# EAGLE library part HEADER16 (library headers)
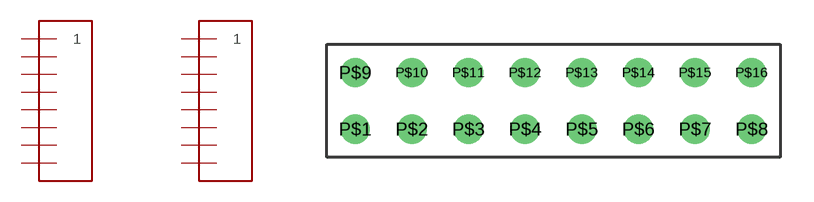
[diagram p0: symbol with the pads of 2X8; footprint 2X8]

Designator prefix -; gates G$1=1X8 G$2=1X8

## HEADER16  [2X8]
P$1  G$1:1
P$2  G$1:P$2
P$3  G$1:P$3
P$4  G$1:P$4
P$5  G$1:P$5
P$6  G$1:P$6
P$7  G$1:P$7
P$8  G$1:P$8
P$9  G$2:1
P$10  G$2:P$2
P$11  G$2:P$3
P$12  G$2:P$4
P$13  G$2:P$5
P$14  G$2:P$6
P$15  G$2:P$7
P$16  G$2:P$8

## Footprint 2X8 (pad centres in mm)
drill 0.813: P$1 0,0; P$2 2.54,0; P$3 5.08,0; P$4 7.62,0; P$5 10.16,0; P$6 12.7,0; P$7 15.24,0; P$8 17.78,0; P$9 0,2.54; P$10 2.54,2.54; P$11 5.08,2.54; P$12 7.62,2.54; P$13 10.16,2.54; P$14 12.7,2.54; P$15 15.24,2.54; P$16 17.78,2.54